# Altium footprint library Capacitors THD.PcbLib: 270 footprints (part 2 of 17)
Each footprint in its own frame and in the unit in brackets; x right, y up, seen from the top. Pads: shape width x height; smd on the part's side, far side on the other; paste and mask are expansions set on the pad; w line width, h text height; cw(c..) or ccw(c..) is an arc to the next point about the centre after c.
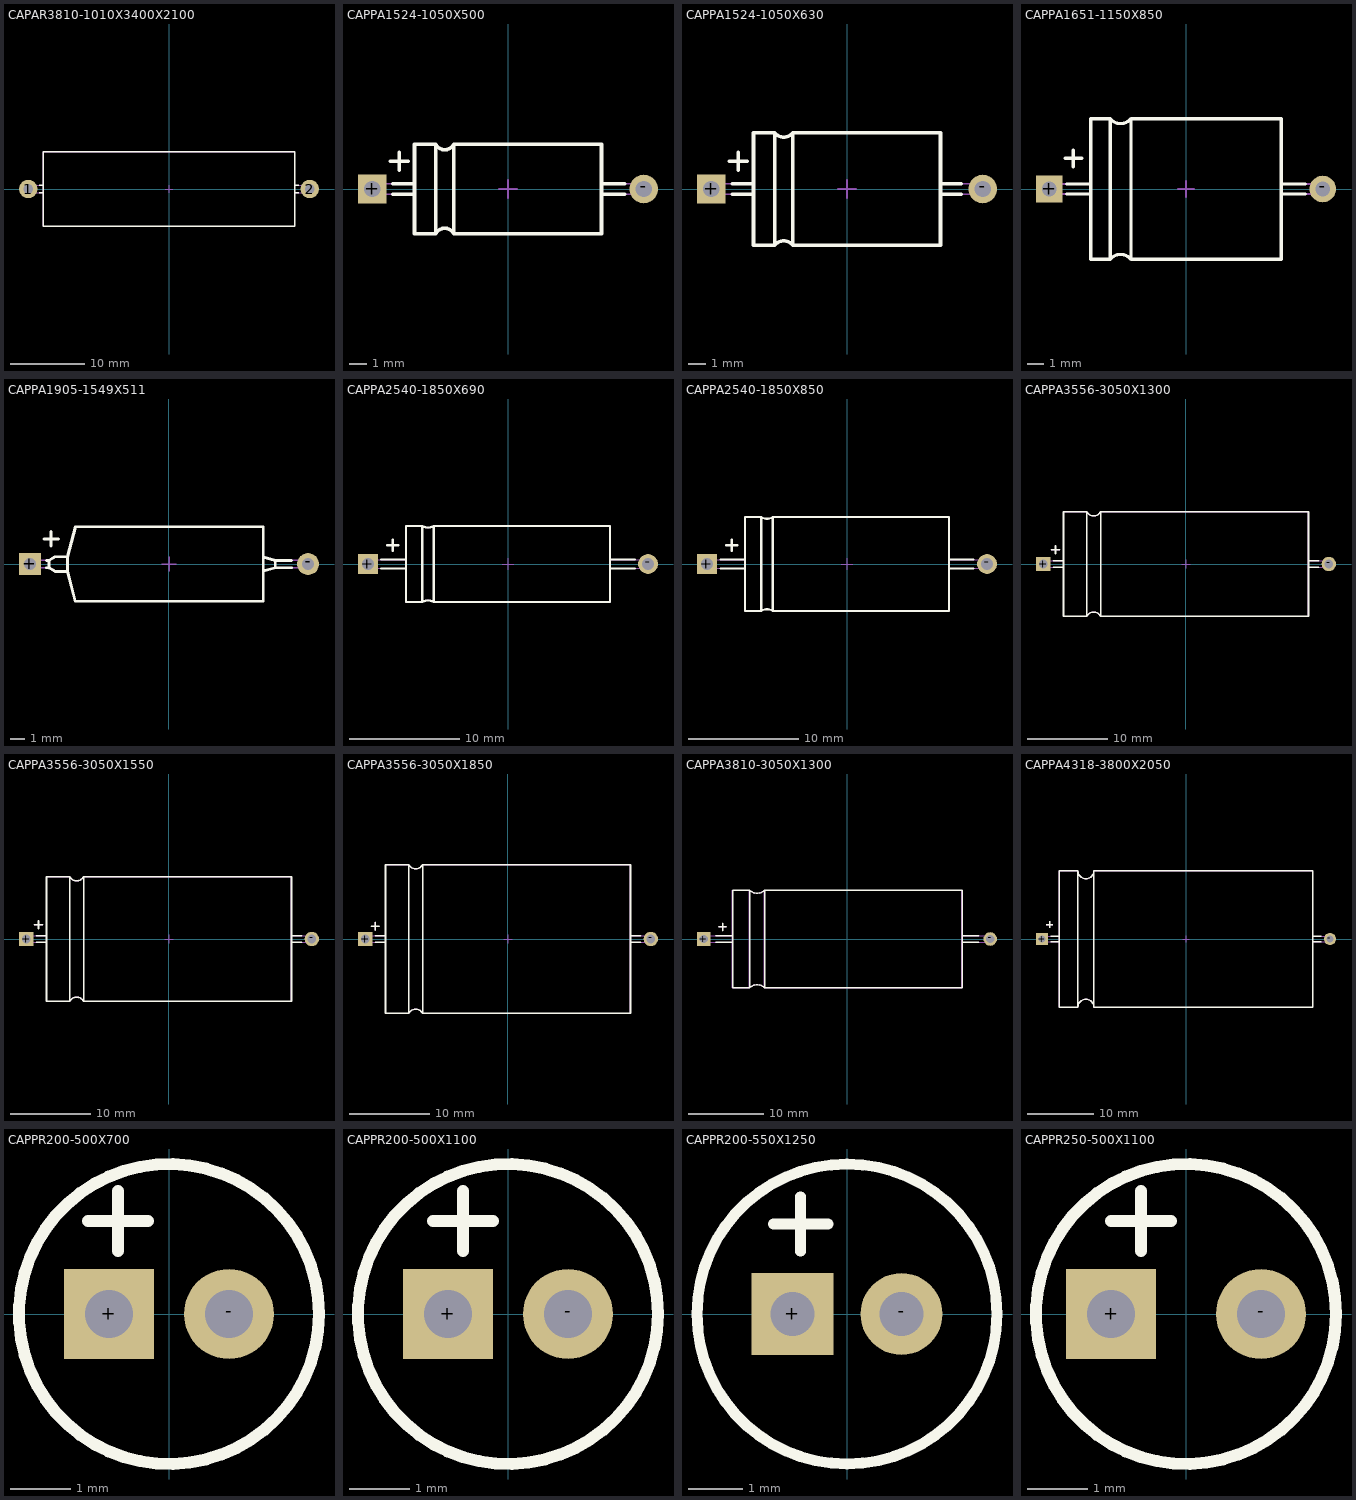
[diagram p1: the footprints below, top view; thin cyan lines are the x and y axes]

## CAPAR3810-1010X3400X2100 [mm] "Capacitor Axial Rectangular, Pin spacing 38.1mm - Body With 10.1mm X Body Length 34mm X Body Height 21mm"
height 21
pads (2):
  round 2.5 hole 1.3: 1(-19.05,0) 2(19.05,0)
Top Overlay:
  lines w0.2: -17.53,-0.5 -17,-0.5 ; -17.53,0.5 -17,0.5 ; 17,-0.5 17.53,-0.5 ; 17,0.5 17.53,0.5 ; -17,-5.05 17,-5.05 17,5.05 -17,5.05 -17,-5.05
Mechanical 8:
  lines w0.1: -19.55,0 -19.05,0 ; -19.05,-0.5 -19.05,0 ; -19.05,0.5 -19.05,0 ; -18.55,0 -19.05,0 ; -0.5,0 0,0 ; 0,-0.5 0,0 ; 0,0.5 0,0 ; 0.5,0 0,0 ; 18.55,0 19.05,0 ; 19.05,-0.5 19.05,0 ; 19.05,0.5 19.05,0 ; 19.55,0 19.05,0
Mechanical 14:
  lines w0.1: -17,-0.5 -19.05,-0.5 cw(c-19.05,0) -19.05,0.5 -17,0.5 ; 17,-0.5 19.05,-0.5 ccw(c19.05,0) 19.05,0.5 17,0.5 ; -17,-5.05 17,-5.05 17,5.05 -17,5.05 -17,-5.05
3D body "CAPAR3810-1010X3400X2100.stp": height 21, standoff -3.6, extent -19.55,-5.05 19.55,5.05

## CAPPA1524-1050X500 [mm] "Capacitor Axial, Pin spacing 15.24mm - Body Length 10.5mm X Body Diameter 5.0mm"
height 5
pads (2):
  rect 1.6x1.6 hole 0.9: +(-7.62,0)
  round 1.6 hole 0.9: -(7.62,0)
Top Overlay:
  lines w0.2: -6.6,1.55 -5.6,1.55 ; -6.47,-0.3 -5.25,-0.3 ; -6.47,0.3 -5.25,0.3 ; -6.1,1.05 -6.1,2.05 ; 5.25,-0.3 6.562,-0.3 ; 5.25,0.3 6.562,0.3 ; -4.05,-2.5 cw(c-3.55,-2.767) -3.05,-2.5 ; -4.05,-2.5 -4.05,2.5 ; -4.05,-2.5 -5.25,-2.5 -5.25,2.5 -4.05,2.5 ; -4.05,2.5 ccw(c-3.55,2.767) -3.05,2.5 ; -3.05,-2.5 -3.05,2.5 ; -3.05,-2.5 5.25,-2.5 5.25,2.5 -3.05,2.5
Mechanical 8:
  lines w0.1: -8.12,0 -7.62,0 ; -7.62,-0.5 -7.62,0 ; -7.62,0.5 -7.62,0 ; -7.12,0 -7.62,0 ; -0.5,0 0,0 ; 0,-0.5 0,0 ; 0,0.5 0,0 ; 0.5,0 0,0 ; 7.12,0 7.62,0 ; 7.62,-0.5 7.62,0 ; 7.62,0.5 7.62,0 ; 8.12,0 7.62,0
Mechanical 14:
  lines w0.1: -6.6,1.55 -5.6,1.55 ; -6.1,1.05 -6.1,2.05 ; -5.25,-0.3 -7.62,-0.3 cw(c-7.62,0) -7.62,0.3 -5.25,0.3 ; 5.25,-0.3 7.62,-0.3 ccw(c7.62,0) 7.62,0.3 5.25,0.3 ; -4.05,-2.5 cw(c-3.55,-2.767) -3.05,-2.5 ; -4.05,-2.5 -4.05,2.5 ; -4.05,-2.5 -5.25,-2.5 -5.25,2.5 -4.05,2.5 ; -4.05,2.5 ccw(c-3.55,2.767) -3.05,2.5 ; -3.05,-2.5 5.25,-2.5 5.25,2.5 -3.05,2.5 ; -3.05,-2.5 -3.05,2.5
3D body "CAPPA1524-1050X500.stp": height 5, standoff -3.1, extent -7.92,-2.5 7.92,2.5

## CAPPA1524-1050X630 [mm] "Capacitor Axial, Pin spacing 15.24mm - Body Length 10.5mm X Body Diameter 6.3mm"
height 6.3
pads (2):
  rect 1.6x1.6 hole 0.9: +(-7.62,0)
  round 1.6 hole 0.9: -(7.62,0)
Top Overlay:
  lines w0.2: -6.6,1.55 -5.6,1.55 ; -6.435,-0.3 -5.25,-0.3 ; -6.435,0.3 -5.25,0.3 ; -6.1,1.05 -6.1,2.05 ; 5.25,-0.3 6.4,-0.3 ; 5.25,0.3 6.4,0.3 ; -4.05,-3.15 cw(c-3.55,-3.555) -3.05,-3.15 ; -4.05,-3.15 -4.05,3.15 ; -4.05,-3.15 -5.25,-3.15 -5.25,3.15 -4.05,3.15 ; -4.05,3.15 ccw(c-3.55,3.555) -3.05,3.15 ; -3.05,-3.15 5.25,-3.15 5.25,3.15 -3.05,3.15 ; -3.05,-3.15 -3.05,3.15
Mechanical 8:
  lines w0.1: -8.12,0 -7.62,0 ; -7.62,-0.5 -7.62,0 ; -7.62,0.5 -7.62,0 ; -7.12,0 -7.62,0 ; -0.5,0 0,0 ; 0,-0.5 0,0 ; 0,0.5 0,0 ; 0.5,0 0,0 ; 7.12,0 7.62,0 ; 7.62,-0.5 7.62,0 ; 7.62,0.5 7.62,0 ; 8.12,0 7.62,0
Mechanical 14:
  lines w0.1: -6.6,1.55 -5.6,1.55 ; -6.1,1.05 -6.1,2.05 ; -5.25,-0.3 -7.62,-0.3 cw(c-7.62,0) -7.62,0.3 -5.25,0.3 ; 5.25,-0.3 7.62,-0.3 ccw(c7.62,0) 7.62,0.3 5.25,0.3 ; -4.05,-3.15 cw(c-3.55,-3.555) -3.05,-3.15 ; -4.05,-3.15 -5.25,-3.15 -5.25,3.15 -4.05,3.15 ; -4.05,-3.15 -4.05,3.15 ; -4.05,3.15 ccw(c-3.55,3.555) -3.05,3.15 ; -3.05,-3.15 -3.05,3.15 ; -3.05,-3.15 5.25,-3.15 5.25,3.15 -3.05,3.15
3D body "CAPPA1524-1050X630.stp": height 6.3, standoff -3.4, extent -7.92,-3.15 7.92,3.15

## CAPPA1651-1150X850 [mm] "Capacitor Axial, Pin spacing 16.51mm - Body Length 11.5mm X Body Diameter 8.5mm"
height 8.5
pads (2):
  rect 1.6x1.6 hole 0.9: +(-8.255,0)
  round 1.6 hole 0.9: -(8.255,0)
Top Overlay:
  lines w0.2: -7.3,1.85 -6.3,1.85 ; -7.197,-0.3 -5.75,-0.3 ; -7.197,0.3 -5.75,0.3 ; -6.8,1.35 -6.8,2.35 ; 5.75,-0.3 7.197,-0.3 ; 5.75,0.3 7.197,0.3 ; -4.574,-4.25 cw(c-3.948,-4.748) -3.322,-4.25 ; -4.574,-4.25 -4.574,4.25 ; -4.574,-4.25 -5.75,-4.25 -5.75,4.25 -4.574,4.25 ; -4.574,4.25 ccw(c-3.948,4.748) -3.322,4.25 ; -3.322,-4.25 -3.322,4.25 ; -3.322,-4.25 5.75,-4.25 5.75,4.25 -3.322,4.25
Mechanical 8:
  lines w0.1: -8.755,0 -8.255,0 ; -8.255,-0.5 -8.255,0 ; -8.255,0.5 -8.255,0 ; -7.755,0 -8.255,0 ; -0.5,0 0,0 ; 0,-0.5 0,0 ; 0,0.5 0,0 ; 0.5,0 0,0 ; 7.755,0 8.255,0 ; 8.255,-0.5 8.255,0 ; 8.255,0.5 8.255,0 ; 8.755,0 8.255,0
Mechanical 14:
  lines w0.1: -7.3,1.85 -6.3,1.85 ; -6.8,1.35 -6.8,2.35 ; -5.75,-0.3 -8.255,-0.3 cw(c-8.255,0) -8.255,0.3 -5.75,0.3 ; 5.75,-0.3 8.255,-0.3 ccw(c8.255,0) 8.255,0.3 5.75,0.3 ; -4.574,-4.25 cw(c-3.948,-4.748) -3.322,-4.25 ; -4.574,-4.25 -4.574,4.25 ; -4.574,-4.25 -5.75,-4.25 -5.75,4.25 -4.574,4.25 ; -4.574,4.25 ccw(c-3.948,4.748) -3.322,4.25 ; -3.322,-4.25 -3.322,4.25 ; -3.322,-4.25 5.75,-4.25 5.75,4.25 -3.322,4.25
3D body "CAPPA1651-1150X850.stp": height 8.5, standoff -3.8, extent -8.555,-4.25 8.555,4.25

## CAPPA1905-1549X511 [mm] "Capacitor Axial, Pin spacing 16.51mm - Body Length 15.49mm X Body Diameter 5.11mm"
height 5.11
pads (2):
  rect 1.5x1.5 hole 0.8: +(-9.525,0)
  round 1.5 hole 0.8: -(9.525,0)
Top Overlay:
  lines w0.2: -8.575,1.725 -7.575,1.725 ; -8.404,-0.255 -8.21,-0.255 ; -8.404,0.255 -8.21,0.255 ; -8.075,1.225 -8.075,2.225 ; 6.454,-0.485 7.28,-0.255 ; 6.454,0.484 7.28,0.25 7.28,-0.255 ; 7.28,0.255 8.404,0.255 ; 8.404,-0.255 7.28,-0.255 ; -6.95,-0.5 -6.417,-2.547 6.454,-2.547 6.454,2.555 -6.415,2.555 -6.95,0.5 ; -6.95,-0.5 -7.81,-0.5 -8.21,-0.26 -8.21,0.26 -7.81,0.5 -6.95,0.5 ; -6.95,-0.5 -6.95,0.5
Mechanical 8:
  lines w0.1: -10.025,0 -9.525,0 ; -9.525,-0.5 -9.525,0 ; -9.525,0.5 -9.525,0 ; -9.025,0 -9.525,0 ; -0.5,0 0,0 ; 0,-0.5 0,0 ; 0,0.5 0,0 ; 0.5,0 0,0 ; 9.025,0 9.525,0 ; 9.525,-0.5 9.525,0 ; 9.525,0.5 9.525,0 ; 10.025,0 9.525,0
Mechanical 14:
  lines w0.1: -8.575,1.725 -7.575,1.725 ; -8.21,-0.255 -9.525,-0.255 cw(c-9.525,0) -9.525,0.255 -8.21,0.255 ; -8.075,1.225 -8.075,2.225 ; 6.454,-0.485 7.28,-0.255 ; 6.454,0.484 7.28,0.25 7.28,-0.255 ; 7.28,0.255 9.525,0.255 cw(c9.525,0) 9.525,-0.255 7.28,-0.255 ; -6.95,-0.5 -6.417,-2.547 6.454,-2.547 6.454,2.555 -6.415,2.555 -6.95,0.5 ; -6.95,-0.5 -7.81,-0.5 -8.21,-0.26 -8.21,0.26 -7.81,0.5 -6.95,0.5 ; -6.95,-0.5 -6.95,0.5
3D body "CAPPA1905-1549X511.stp": height 5.11, standoff -3.1, extent -9.78,-2.555 9.78,2.555

## CAPPA2540-1850X690 [mm] "Capacitor Axial, Pin spacing 25.4mm - Body Length 18.5mm X Body Diameter 6.9mm"
height 6.9
pads (2):
  rect 1.8x1.8 hole 1.1: +(-12.7,0)
  round 1.8 hole 1.1: -(12.7,0)
Top Overlay:
  lines w0.2: -11.5,-0.4 -9.25,-0.4 ; -11.5,0.4 -9.25,0.4 ; -10.95,1.7 -9.95,1.7 ; -10.45,1.2 -10.45,2.2 ; 9.25,-0.4 11.5,-0.4 ; 9.25,0.4 11.5,0.4 ; -7.775,-3.45 cw(c-7.25,-4.294) -6.725,-3.45 ; -7.775,-3.45 -9.25,-3.45 -9.25,3.45 -7.775,3.45 ; -7.775,-3.45 -7.775,3.45 ; -7.775,3.45 ccw(c-7.25,4.294) -6.725,3.45 ; -6.725,-3.45 9.25,-3.45 9.25,3.45 -6.725,3.45 ; -6.725,-3.45 -6.725,3.45
Mechanical 8:
  lines w0.1: -13.2,0 -12.7,0 ; -12.7,-0.5 -12.7,0 ; -12.7,0.5 -12.7,0 ; -12.2,0 -12.7,0 ; -0.5,0 0,0 ; 0,-0.5 0,0 ; 0,0.5 0,0 ; 0.5,0 0,0 ; 12.2,0 12.7,0 ; 12.7,-0.5 12.7,0 ; 12.7,0.5 12.7,0 ; 13.2,0 12.7,0
Mechanical 14:
  lines w0.1: -10.95,1.7 -9.95,1.7 ; -10.45,1.2 -10.45,2.2 ; -9.25,-0.4 -12.7,-0.4 cw(c-12.7,0) -12.7,0.4 -9.25,0.4 ; 9.25,-0.4 12.7,-0.4 ccw(c12.7,0) 12.7,0.4 9.25,0.4 ; -7.775,-3.45 cw(c-7.25,-4.294) -6.725,-3.45 ; -7.775,-3.45 -9.25,-3.45 -9.25,3.45 -7.775,3.45 ; -7.775,-3.45 -7.775,3.45 ; -7.775,3.45 ccw(c-7.25,4.294) -6.725,3.45 ; -6.725,-3.45 9.25,-3.45 9.25,3.45 -6.725,3.45 ; -6.725,-3.45 -6.725,3.45
3D body "CAPPA2540-1850X690.stp": height 6.9, standoff -3.6, extent -13.1,-3.45 13.1,3.45

## CAPPA2540-1850X850 [mm] "Capacitor Axial, Pin spacing 25.4mm - Body Length 18.5mm X Body Diameter 8.5mm"
height 8.5
pads (2):
  rect 1.8x1.8 hole 1.1: +(-12.7,0)
  round 1.8 hole 1.1: -(12.7,0)
Top Overlay:
  lines w0.2: -11.463,-0.4 -9.25,-0.4 ; -11.463,0.4 -9.25,0.4 ; -10.95,1.7 -9.95,1.7 ; -10.45,1.2 -10.45,2.2 ; 9.25,-0.4 11.463,-0.4 ; 9.25,0.4 11.463,0.4 ; -7.775,-4.25 cw(c-7.25,-5.094) -6.725,-4.25 ; -7.775,-4.25 -7.775,4.25 ; -7.775,-4.25 -9.25,-4.25 -9.25,4.25 -7.775,4.25 ; -7.775,4.25 ccw(c-7.25,5.094) -6.725,4.25 ; -6.725,-4.25 -6.725,4.25 ; -6.725,-4.25 9.25,-4.25 9.25,4.25 -6.725,4.25
Mechanical 8:
  lines w0.1: -13.2,0 -12.7,0 ; -12.7,-0.5 -12.7,0 ; -12.7,0.5 -12.7,0 ; -12.2,0 -12.7,0 ; -0.5,0 0,0 ; 0,-0.5 0,0 ; 0,0.5 0,0 ; 0.5,0 0,0 ; 12.2,0 12.7,0 ; 12.7,-0.5 12.7,0 ; 12.7,0.5 12.7,0 ; 13.2,0 12.7,0
Mechanical 14:
  lines w0.1: -10.95,1.7 -9.95,1.7 ; -10.45,1.2 -10.45,2.2 ; -9.25,-0.4 -12.7,-0.4 cw(c-12.7,0) -12.7,0.4 -9.25,0.4 ; 9.25,-0.4 12.7,-0.4 ccw(c12.7,0) 12.7,0.4 9.25,0.4 ; -7.775,-4.25 cw(c-7.25,-5.094) -6.725,-4.25 ; -7.775,-4.25 -7.775,4.25 ; -7.775,-4.25 -9.25,-4.25 -9.25,4.25 -7.775,4.25 ; -7.775,4.25 ccw(c-7.25,5.094) -6.725,4.25 ; -6.725,-4.25 -6.725,4.25 ; -6.725,-4.25 9.25,-4.25 9.25,4.25 -6.725,4.25
3D body "CAPPA2540-1850X850.stp": height 8.5, standoff -3.6, extent -13.1,-4.25 13.1,4.25

## CAPPA3556-3050X1300 [mm] "Capacitor Axial, Pin spacing 35.56mm - Body Length 30.5mm X Body Diameter 12.5mm"
height 13
pads (2):
  rect 1.8x1.8 hole 1.1: +(-17.78,0)
  round 1.8 hole 1.1: -(17.78,0)
Top Overlay:
  lines w0.2: -16.75,1.775 -15.75,1.775 ; -16.543,-0.4 -15.25,-0.4 ; -16.543,0.4 -15.25,0.4 ; -16.25,1.275 -16.25,2.275 ; 15.25,-0.4 16.543,-0.4 ; 15.25,0.4 16.543,0.4 ; -12.351,-6.5 cw(c-11.495,-6.986) -10.639,-6.5 ; -12.351,-6.5 -15.25,-6.5 -15.25,6.5 -12.351,6.5 ; -12.351,-6.5 -12.351,6.5 ; -12.351,6.5 ccw(c-11.495,6.986) -10.639,6.5 ; -10.639,-6.5 15.25,-6.5 15.25,6.5 -10.639,6.5 ; -10.639,-6.5 -10.639,6.5
Mechanical 8:
  lines w0.1: -18.28,0 -17.78,0 ; -17.78,-0.5 -17.78,0 ; -17.78,0.5 -17.78,0 ; -17.28,0 -17.78,0 ; -0.5,0 0,0 ; 0,-0.5 0,0 ; 0,0.5 0,0 ; 0.5,0 0,0 ; 17.28,0 17.78,0 ; 17.78,-0.5 17.78,0 ; 17.78,0.5 17.78,0 ; 18.28,0 17.78,0
Mechanical 14:
  lines w0.1: -16.75,1.775 -15.75,1.775 ; -16.25,1.275 -16.25,2.275 ; -15.25,-0.4 -17.78,-0.4 cw(c-17.78,0) -17.78,0.4 -15.25,0.4 ; 15.25,-0.4 17.78,-0.4 ccw(c17.78,0) 17.78,0.4 15.25,0.4 ; -12.351,-6.5 cw(c-11.495,-6.986) -10.639,-6.5 ; -12.351,-6.5 -15.25,-6.5 -15.25,6.5 -12.351,6.5 ; -12.351,-6.5 -12.351,6.5 ; -12.351,6.5 ccw(c-11.495,6.986) -10.639,6.5 ; -10.639,-6.5 15.25,-6.5 15.25,6.5 -10.639,6.5 ; -10.639,-6.5 -10.639,6.5
3D body "CAPPA3556-3050X1300.stp": height 13, standoff -3.8, extent -18.18,-6.5 18.18,6.5

## CAPPA3556-3050X1550 [mm] "Capacitor Axial, Pin spacing 35.56mm - Body Length 30.5mm X Body Diameter 15.5mm"
height 15.5
pads (2):
  rect 1.8x1.8 hole 1.1: +(-17.78,0)
  round 1.8 hole 1.1: -(17.78,0)
Top Overlay:
  lines w0.2: -16.75,1.775 -15.75,1.775 ; -16.543,-0.4 -15.25,-0.4 ; -16.543,0.4 -15.25,0.4 ; -16.25,1.275 -16.25,2.275 ; 15.25,-0.4 16.543,-0.4 ; 15.25,0.4 16.543,0.4 ; -12.351,-7.75 cw(c-11.495,-8.236) -10.639,-7.75 ; -12.351,-7.75 -12.351,7.75 ; -12.351,-7.75 -15.25,-7.75 -15.25,7.75 -12.351,7.75 ; -12.351,7.75 ccw(c-11.495,8.236) -10.639,7.75 ; -10.639,-7.75 -10.639,7.75 ; -10.639,-7.75 15.25,-7.75 15.25,7.75 -10.639,7.75
Mechanical 8:
  lines w0.1: -18.28,0 -17.78,0 ; -17.78,-0.5 -17.78,0 ; -17.78,0.5 -17.78,0 ; -17.28,0 -17.78,0 ; -0.5,0 0,0 ; 0,-0.5 0,0 ; 0,0.5 0,0 ; 0.5,0 0,0 ; 17.28,0 17.78,0 ; 17.78,-0.5 17.78,0 ; 17.78,0.5 17.78,0 ; 18.28,0 17.78,0
Mechanical 14:
  lines w0.1: -16.75,1.775 -15.75,1.775 ; -16.25,1.275 -16.25,2.275 ; -15.25,-0.4 -17.78,-0.4 cw(c-17.78,0) -17.78,0.4 -15.25,0.4 ; 15.25,-0.4 17.78,-0.4 ccw(c17.78,0) 17.78,0.4 15.25,0.4 ; -12.351,-7.75 cw(c-11.495,-8.236) -10.639,-7.75 ; -12.351,-7.75 -12.351,7.75 ; -12.351,-7.75 -15.25,-7.75 -15.25,7.75 -12.351,7.75 ; -12.351,7.75 ccw(c-11.495,8.236) -10.639,7.75 ; -10.639,-7.75 -10.639,7.75 ; -10.639,-7.75 15.25,-7.75 15.25,7.75 -10.639,7.75
3D body "CAPPA3556-3050X1550.stp": height 15.5, standoff -3.8, extent -18.18,-7.75 18.18,7.75

## CAPPA3556-3050X1850 [mm] "Capacitor Axial, Pin spacing 35.56mm - Body Length 30.5mm X Body Diameter 18.5mm"
height 18.5
pads (2):
  rect 1.8x1.8 hole 1.1: +(-17.78,0)
  round 1.8 hole 1.1: -(17.78,0)
Top Overlay:
  lines w0.2: -17.05,1.6 -16.05,1.6 ; -16.55,1.1 -16.55,2.1 ; -16.543,-0.4 -15.25,-0.4 ; -16.543,0.4 -15.25,0.4 ; 15.25,-0.4 16.543,-0.4 ; 15.25,0.4 16.543,0.4 ; -12.361,-9.25 cw(c-11.495,-9.751) -10.63,-9.25 ; -12.361,-9.25 -12.361,9.25 ; -12.361,-9.25 -15.25,-9.25 -15.25,9.25 -12.361,9.25 ; -12.361,9.25 ccw(c-11.495,9.751) -10.63,9.25 ; -10.63,-9.25 -10.63,9.25 ; -10.63,-9.25 15.25,-9.25 15.25,9.25 -10.63,9.25
Mechanical 8:
  lines w0.1: -18.28,0 -17.78,0 ; -17.78,-0.5 -17.78,0 ; -17.78,0.5 -17.78,0 ; -17.28,0 -17.78,0 ; -0.5,0 0,0 ; 0,-0.5 0,0 ; 0,0.5 0,0 ; 0.5,0 0,0 ; 17.28,0 17.78,0 ; 17.78,-0.5 17.78,0 ; 17.78,0.5 17.78,0 ; 18.28,0 17.78,0
Mechanical 14:
  lines w0.1: -17.05,1.6 -16.05,1.6 ; -16.55,1.1 -16.55,2.1 ; -15.25,-0.4 -17.78,-0.4 cw(c-17.78,0) -17.78,0.4 -15.25,0.4 ; 15.25,-0.4 17.78,-0.4 ccw(c17.78,0) 17.78,0.4 15.25,0.4 ; -12.361,-9.25 cw(c-11.495,-9.751) -10.63,-9.25 ; -12.361,-9.25 -12.361,9.25 ; -12.361,-9.25 -15.25,-9.25 -15.25,9.25 -12.361,9.25 ; -12.361,9.25 ccw(c-11.495,9.751) -10.63,9.25 ; -10.63,-9.25 -10.63,9.25 ; -10.63,-9.25 15.25,-9.25 15.25,9.25 -10.63,9.25
3D body "CAPPA3556-3050X1850.stp": height 18.5, standoff -3.8, extent -18.18,-9.25 18.18,9.25

## CAPPA3810-3050X1300 [mm] "Capacitor Axial, Pin spacing 38.1mm - Body Length 30.5mm X Body Diameter 13mm"
height 13
pads (2):
  rect 1.8x1.8 hole 1.1: +(-19.05,0)
  round 1.8 hole 1.1: -(19.05,0)
Top Overlay:
  lines w0.2: -17.45,-0.4 -15.2,-0.4 ; -17.45,0.4 -15.2,0.4 ; -17.05,1.6 -16.05,1.6 ; -16.55,1.1 -16.55,2.1 ; 15.3,-0.4 17.55,-0.4 ; 15.3,0.4 17.55,0.4 ; -12.95,-6.5 cw(c-11.95,-7.5) -10.95,-6.5 ; -12.95,-6.5 -12.95,6.5 ; -12.95,-6.5 -15.2,-6.5 -15.2,6.5 -12.95,6.5 ; -12.95,6.5 ccw(c-11.95,7.5) -10.95,6.5 ; -10.95,-6.5 -10.95,6.5 ; -10.95,-6.5 15.3,-6.5 15.3,6.5 -10.95,6.5
Mechanical 14:
  lines w0.1: -17.05,1.6 -16.05,1.6 ; -16.55,1.1 -16.55,2.1 ; -15.25,-0.4 -19.05,-0.4 cw(c-19,0) -19.05,0.4 -15.25,0.4 ; 15.25,-0.4 19.05,-0.4 ccw(c19,0) 19.05,0.4 15.25,0.4 ; -13,-6.5 cw(c-12,-7.5) -11,-6.5 ; -13,-6.5 -15.25,-6.5 -15.25,6.5 -13,6.5 ; -13,-6.5 -13,6.5 ; -13,6.5 ccw(c-12,7.5) -11,6.5 ; -11,-6.5 15.25,-6.5 15.25,6.5 -11,6.5 ; -11,-6.5 -11,6.5
3D body "CAPPA3810-30500X1300.stp": height 13, standoff -3.8, extent -19.5,-6.5 19.5,6.5

## CAPPA4318-3800X2050 [mm] "Capacitor Axial, Pin spacing 43mm - Body Length 38mm X Body Diameter 20.5mm"
height 20.5
pads (2):
  rect 1.8x1.8 hole 1.1: +(-21.59,0)
  round 1.8 hole 1.1: -(21.59,0)
Top Overlay:
  lines w0.2: -20.95,2.15 -19.95,2.15 ; -20.45,1.65 -20.45,2.65 ; -20.248,-0.4 -19,-0.4 ; -20.248,0.4 -19,0.4 ; 19,-0.4 20.248,-0.4 ; 19,0.4 20.248,0.4 ; -16.2,-10.25 cw(c-15,-10.25) -13.8,-10.25 ; -16.2,-10.25 -16.2,10.25 ; -16.2,-10.25 -19,-10.25 -19,10.25 -16.2,10.25 ; -16.2,10.25 ccw(c-15,10.25) -13.8,10.25 ; -13.8,-10.25 -13.8,10.25 ; -13.8,-10.25 19,-10.25 19,10.25 -13.8,10.25
Mechanical 8:
  lines w0.1: -22.09,0 -21.59,0 ; -21.59,-0.5 -21.59,0 ; -21.59,0.5 -21.59,0 ; -21.09,0 -21.59,0 ; -0.5,0 0,0 ; 0,-0.5 0,0 ; 0,0.5 0,0 ; 0.5,0 0,0 ; 21.09,0 21.59,0 ; 21.59,-0.5 21.59,0 ; 21.59,0.5 21.59,0 ; 22.09,0 21.59,0
Mechanical 14:
  lines w0.1: -20.95,2.15 -19.95,2.15 ; -20.45,1.65 -20.45,2.65 ; -19,-0.4 -21.59,-0.4 cw(c-21.59,0) -21.59,0.4 -19,0.4 ; 19,-0.4 21.59,-0.4 ccw(c21.59,0) 21.59,0.4 19,0.4 ; -16.2,-10.25 cw(c-15,-10.25) -13.8,-10.25 ; -16.2,-10.25 -16.2,10.25 ; -16.2,-10.25 -19,-10.25 -19,10.25 -16.2,10.25 ; -16.2,10.25 ccw(c-15,10.25) -13.8,10.25 ; -13.8,-10.25 19,-10.25 19,10.25 -13.8,10.25 ; -13.8,-10.25 -13.8,10.25
3D body "CAPPA4318-3800X2050.stp": height 20.5, standoff -3.8, extent -21.99,-10.25 21.99,10.25

## CAPPR200-500X700 [mm] "Capacitor, Radial, Pin spacing 2.0mm - Body Diameter 5.0mm X Body Height 7mm"
height 7
pads (2):
  rect 1.5x1.5 hole 0.8: +(-1,0)
  round 1.5 hole 0.8: -(1,0)
Top Overlay:
  circle w0.2: c0,0 r2.5
  lines w0.2: -1.35,1.55 -0.35,1.55 ; -0.85,1.05 -0.85,2.05
Mechanical 13:
  circle w0.1: c0,0 r2.5
Mechanical 14:
  circle w0.1: c0,0 r2.5
  lines w0.1: -1.35,1.55 -0.35,1.55 ; -0.85,1.05 -0.85,2.05
3D body "CAPPR200-500X700.stp": height 7, standoff -3.6, extent -2.512,-2.512 2.488,2.488

## CAPPR200-500X1100 [mm] "Capacitor, Radial, Pin spacing 2.0mm - Body Diameter 5.0mm X Body Height 11mm"
height 11
pads (2):
  rect 1.5x1.5 hole 0.8: +(-1,0)
  round 1.5 hole 0.8: -(1,0)
Top Overlay:
  circle w0.2: c0,0 r2.5
  lines w0.2: -1.25,1.55 -0.25,1.55 ; -0.75,1.05 -0.75,2.05
Mechanical 13:
  circle w0.1: c0,0 r2.5
Mechanical 14:
  circle w0.1: c0,0 r2.5
  lines w0.1: -1.25,1.55 -0.25,1.55 ; -0.75,1.05 -0.75,2.05
3D body "CAPPR200-500X1100.stp": height 10.9, standoff -3.6, extent -2.512,-2.512 2.488,2.488

## CAPPR200-550X1250 [mm] "Capacitor, Radial, Pin spacing 2.0mm - Body Diameter 5.0mm X Body Height 11mm"
height 12.5
pads (2):
  rect 1.5x1.5 hole 0.8: +(-1,0)
  round 1.5 hole 0.8: -(1,0)
Top Overlay:
  circle w0.2: c0,0 r2.75
  lines w0.2: -1.35,1.65 -0.35,1.65 ; -0.85,1.15 -0.85,2.15
Mechanical 14:
  circle w0.1: c0,0 r2.75
  lines w0.1: -1.35,1.65 -0.35,1.65 ; -0.85,1.15 -0.85,2.15
3D body "CAPPR200-550X1250.stp": height 12.5, standoff -3.6, extent -2.75,-2.75 2.75,2.75

## CAPPR250-500X1100 [mm] "Capacitor, Radial, Pin spacing 2.5mm - Body Diameter 5.0mm X Body Height 11mm"
height 11
pads (2):
  rect 1.5x1.5 hole 0.8: +(-1.25,0)
  round 1.5 hole 0.8: -(1.25,0)
Top Overlay:
  circle w0.2: c0,0 r2.5
  lines w0.2: -1.25,1.55 -0.25,1.55 ; -0.75,1.05 -0.75,2.05
Mechanical 13:
  circle w0.1: c0,0 r2.5
Mechanical 14:
  circle w0.1: c0,0 r2.5
  lines w0.1: -1.25,1.55 -0.25,1.55 ; -0.75,1.05 -0.75,2.05
3D body "CAPPR250-500X1100.stp": height 10.9, standoff -3.6, extent -2.512,-2.512 2.488,2.488